# Altium schematic symbol library 7-segment-display.SchLib: 1 symbol
Pins are listed as number, name and electrical type; pins without a type are passive.

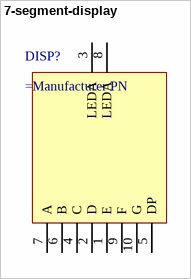
[diagram p0: symbol 7-segment-display]

## 7-segment-display
designator DISP?
7-Segment Display, common anode
pins: 1 E, 2 D, 3 LEDA, 4 C, 5 DP, 6 B, 7 A, 8 LEDA, 9 F, 10 G